# EAGLE library part UNICS-IMU (library cansat-lib)
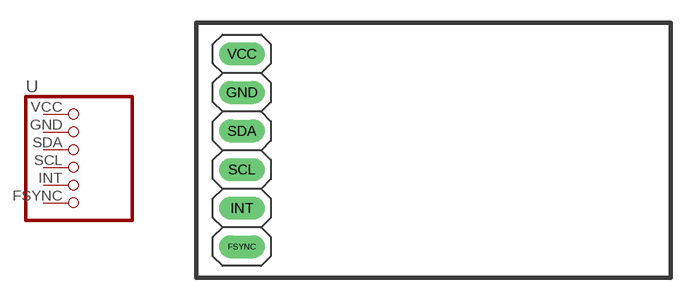
[diagram p11: symbol with the pads of UNICS-IMU; footprint UNICS-IMU]

Designator prefix -

## UNICS-IMU  [UNICS-IMU]
FSYNC  VSYNC
GND  GND
INT  INT
SCL  SCL
SDA  SDA
VCC  VCC

## Footprint UNICS-IMU (pad centres in mm)
drill 1 long: FSYNC 0,-6.35; GND 0,3.81; INT 0,-3.81; SCL 0,-1.27; SDA 0,1.27; VCC 0,6.35